# Altium footprint library 2-1445054-8.PcbLib: 1 footprints
Each footprint in its own frame and in the unit in brackets; x right, y up, seen from the top. Pads: shape width x height; smd on the part's side, far side on the other; paste and mask are expansions set on the pad; w line width, h text height; cw(c..) or ccw(c..) is an arc to the next point about the centre after c.
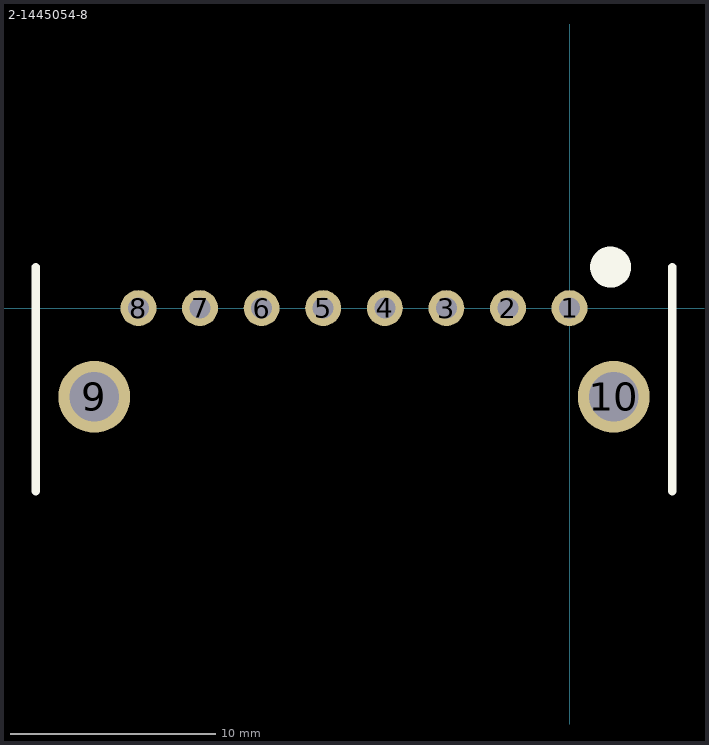
[diagram p0: the footprint, top view; thin cyan lines are the x and y axes]

## 2-1445054-8 [mm] "8p through hole connector"
pads (10):
  round 1.75 hole 1.02: 1(0,0) 2(-3,0) 3(-6,0) 4(-9,0) 5(-12,0) 6(-15,0) 7(-18,0) 8(-21,0)
  round 3.5 hole 2.41: 9(-23.15,-4.32) 10(2.15,-4.32)
Top Overlay:
  circle w1: c2,2 r0.5
  lines w0.4: -26,-8.92 -26,2 ; 5,-8.92 5,2
3D body: height 4.37, standoff 0.51, extent -26,-8.92 5,0